# EAGLE library part 6861XX148922_686106148922 (library 68611414422)
WR-FPC 1.00 mm SMT ZIF Horizontal - Bottom Contact - Hinge Type KIND PROPERTIES Pitch 1 mm MATERIAL PROPERTIES Insulator Material PA6T Contact Material Phosphor Bronze Contact Plating 120 (µ") Tin over 50 (µ") Nickel Contact Type Stamped Solder Tabs Brass <https://www.we-online.com/catalog/media/o58875v209%20Family_Con_FPC_ZIF_100_6861xx148922.jpg> Details see: https://www.we-online.com/catalog/en/FPC_1_00_SMT_ZIF_HORIZONTAL_BOTTOM_CONTACT_HINGE_TYPE_6861XX148922/ Updated by Ella Wu 2020-08-26 2020(C) Wurth Elektronik
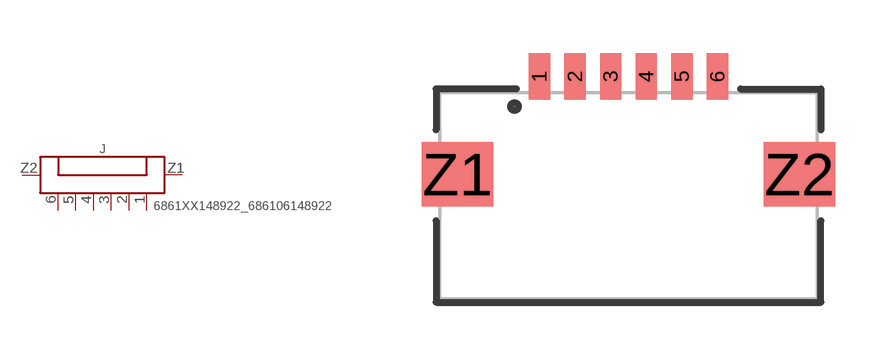
[diagram p163: symbol with the pads of 686106148922; footprint 686106148922]

Designator prefix J

## 6861XX148922_686106148922 (CONTACT-RESISTANCE: 50mOhm; DATASHEET-URL: https://www.we-online.com/catalog/datasheet/686106148922.pdf; IR: 1A; L: 10.6mm; MATE-WITH: WR-FFC 1.00 mm Flat Flexible Cable Type 1 (Contacts on same side)/ Type 2 (Contacts opposite); PACKAGING: Tape and Reel; PART-NUMBER: 686106148922; PINS: 6; PITCH: 1mm; TYPE: Horizontal; VALUE: 686106148922; WORKING-VOLTAGE: 100V(AC))  [686106148922]
1  1  pas
2  2  pas
3  3  pas
4  4  pas
5  5  pas
6  6  pas
Z1  Z1  pas
Z2  Z2  pas

## Footprint 686106148922 (pad centres in mm)
WR-FPC 1.00 mm SMT ZIF Horizontal - Bottom Contact - Hinge Type,6Pins
smd 0.6 x 1.3: 1 -2.5,3.35; 2 -1.5,3.35; 3 -0.5,3.35; 4 0.5,3.35; 5 1.5,3.35; 6 2.5,3.35
smd 2 x 1.8: Z1 -4.8,0.6; Z2 4.8,0.6